# Altium schematic symbol library Gastroscopy-LED.SchLib: 2 symbols
Pins are listed as number, name and electrical type; pins without a type are passive.

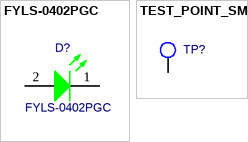
[diagram p0: symbols FYLS-0402PGC to TEST_POINT_SMT]

## FYLS-0402PGC
designator D?
LED GREEN CLEAR SMD; Manufacturer 1: Ningbo Foryard Optoelectronics; Manufacturer Part Number 1: FYLS-0402PGC
footprint L_0402_GREEN (SMD LED LAMP)
pins: 1 K, 2 A

## TEST_POINT_SMT
designator TP?  (value not drawn)  (no BOM)
STM TEST POINT
footprint TEST_POINT_SMT (SMT test point, 40 mil pad)
pins: 1